# Altium integrated library SpecialFunctions.IntLib: 70 symbols
Pins are listed as number, name and electrical type; pins without a type are passive.

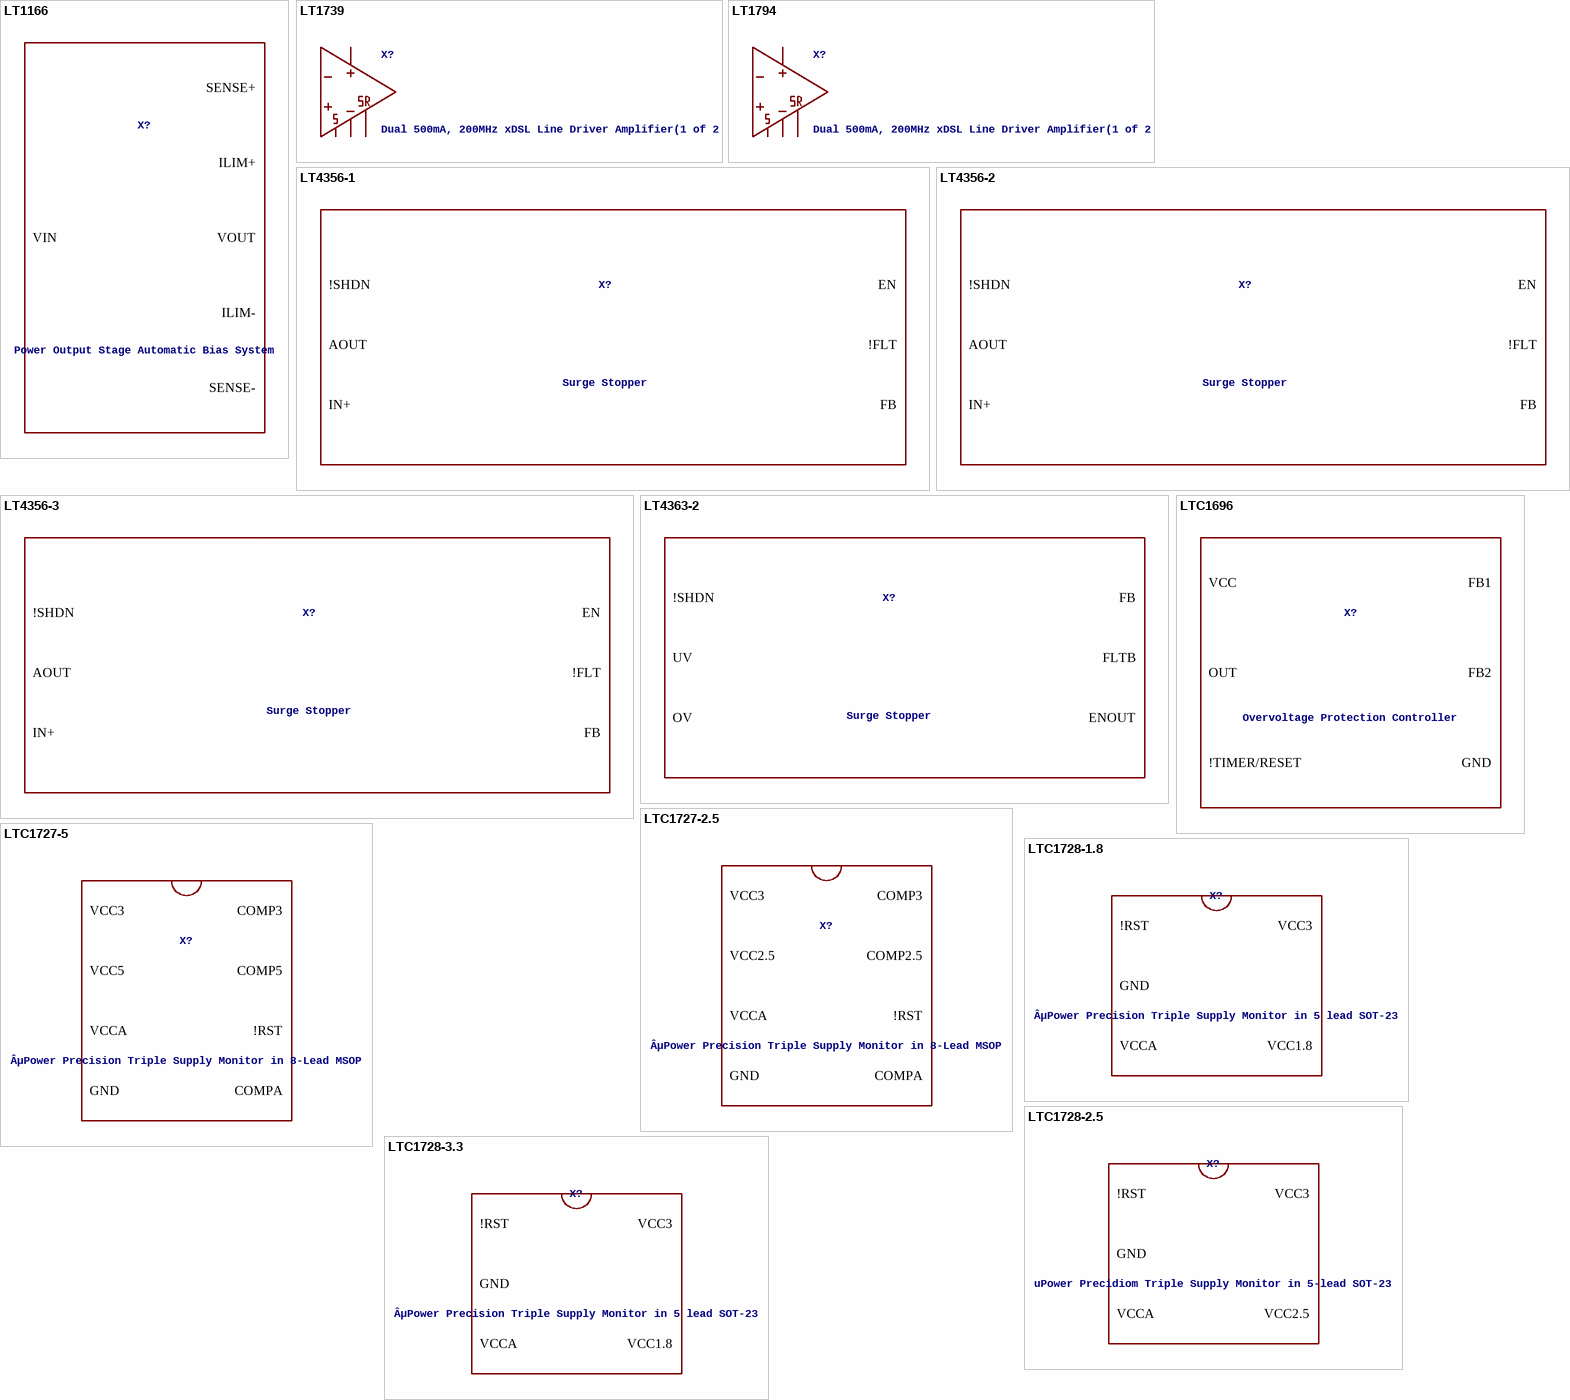
[diagram p0: symbols LT1166 to LTC1728-3.3]

## LT1166
designator X?, comment Power Output Stage Automatic Bias System
VALUE2: LT1166; SPICEMODEL: LTC.lib
pins: ?1 VTOP, ?2 VIN, ?3 VOUT, ?4 VBOTTOM, ?5 SENSE-, ?6 ILIM-, ?7 ILIM+, ?8 SENSE+

## LT1739
designator X?, comment Dual 500mA, 200MHz xDSL Line Driver Amplifier(1 of 2)
VALUE2: LT1794; SPICEMODEL: LTC1.lib
pins: ?1 IN+, ?2 IN-, ?3 V+, ?4 V-, ?5 OUT, ?6 S, ?7 SR

## LT1794
designator X?, comment Dual 500mA, 200MHz xDSL Line Driver Amplifier(1 of 2)
VALUE2: LT1794; SPICEMODEL: LTC1.lib
pins: ?1 IN+, ?2 IN-, ?3 V+, ?4 V-, ?5 OUT, ?6 S, ?7 SR

## LT4356-1
designator X?, comment Surge Stopper
VALUE2: LT4356-1; SPICEMODEL: LT4356-1.sub
pins: ?1 TMR, ?2 FB, ?3 OUT, ?4 GATE, ?5 SNS, ?6 VCC, ?7 !SHDN, ?8 !FLT, ?9 EN, ?10 GND, ?11 AOUT, ?12 IN+

## LT4356-2
designator X?, comment Surge Stopper
VALUE2: LT4356-2; SPICEMODEL: LT4356-2.sub
pins: ?1 TMR, ?2 FB, ?3 OUT, ?4 GATE, ?5 SNS, ?6 VCC, ?7 !SHDN, ?8 !FLT, ?9 EN, ?10 GND, ?11 AOUT, ?12 IN+

## LT4356-3
designator X?, comment Surge Stopper
VALUE2: LT4356-3; SPICEMODEL: LT4356-3.sub
pins: ?1 TMR, ?2 FB, ?3 OUT, ?4 GATE, ?5 SNS, ?6 VCC, ?7 !SHDN, ?8 !FLT, ?9 EN, ?10 GND, ?11 AOUT, ?12 IN+

## LT4363-2
designator X?, comment Surge Stopper
VALUE2: LT4363-2; SPICEMODEL: LT4363-2.sub
pins: ?1 FB, ?2 OUT, ?3 SNS, ?4 GATE, ?5 VCC, ?6 !SHDN, ?7 OV, ?8 UV, ?9 GND, ?10 FLTB, ?11 ENOUT, ?12 TMR

## LTC1696
designator X?, comment Overvoltage Protection Controller
VALUE2: LTC1696; SPICEMODEL: LTC1696.sub
pins: ?1 FB1, ?2 GND, ?3 VCC, ?4 OUT, ?5 FB2, ?6 !TIMER/RESET

## LTC1727-2.5
designator X?, comment ÂµPower Precision Triple Supply Monitor in 8-Lead MSOP
VALUE2: LTC1727-2.5; SPICEMODEL: LTC1727-2.5.sub
pins: ?1 VCC3, ?2 VCC2.5, ?3 VCCA, ?4 GND, ?5 COMPA, ?6 !RST, ?7 COMP2.5, ?8 COMP3

## LTC1727-5
designator X?, comment ÂµPower Precision Triple Supply Monitor in 8-Lead MSOP
VALUE2: LTC1727-5; SPICEMODEL: LTC1727-5.sub
pins: ?1 VCC3, ?2 VCC5, ?3 VCCA, ?4 GND, ?5 COMPA, ?6 !RST, ?7 COMP5, ?8 COMP3

## LTC1728-1.8
designator X?, comment ÂµPower Precision Triple Supply Monitor in 5 lead SOT-23
VALUE2: LTC1728-1.8; SPICEMODEL: LTC1728-1.8.sub
pins: ?1 !RST, ?2 GND, ?3 VCCA, ?4 VCC1.8, ?5 VCC3

## LTC1728-2.5
designator X?, comment uPower Precidiom Triple Supply Monitor in 5-lead SOT-23
VALUE2: LTC1728-2.5; SPICEMODEL: LTC1728-2.5.sub
pins: ?1 !RST, ?2 GND, ?3 VCCA, ?4 VCC2.5, ?5 VCC3

## LTC1728-3.3
designator X?, comment ÂµPower Precision Triple Supply Monitor in 5 lead SOT-23
VALUE2: LTC1728-3.3; SPICEMODEL: LTC1728-3.3.sub
pins: ?1 !RST, ?2 GND, ?3 VCCA, ?4 VCC1.8, ?5 VCC3

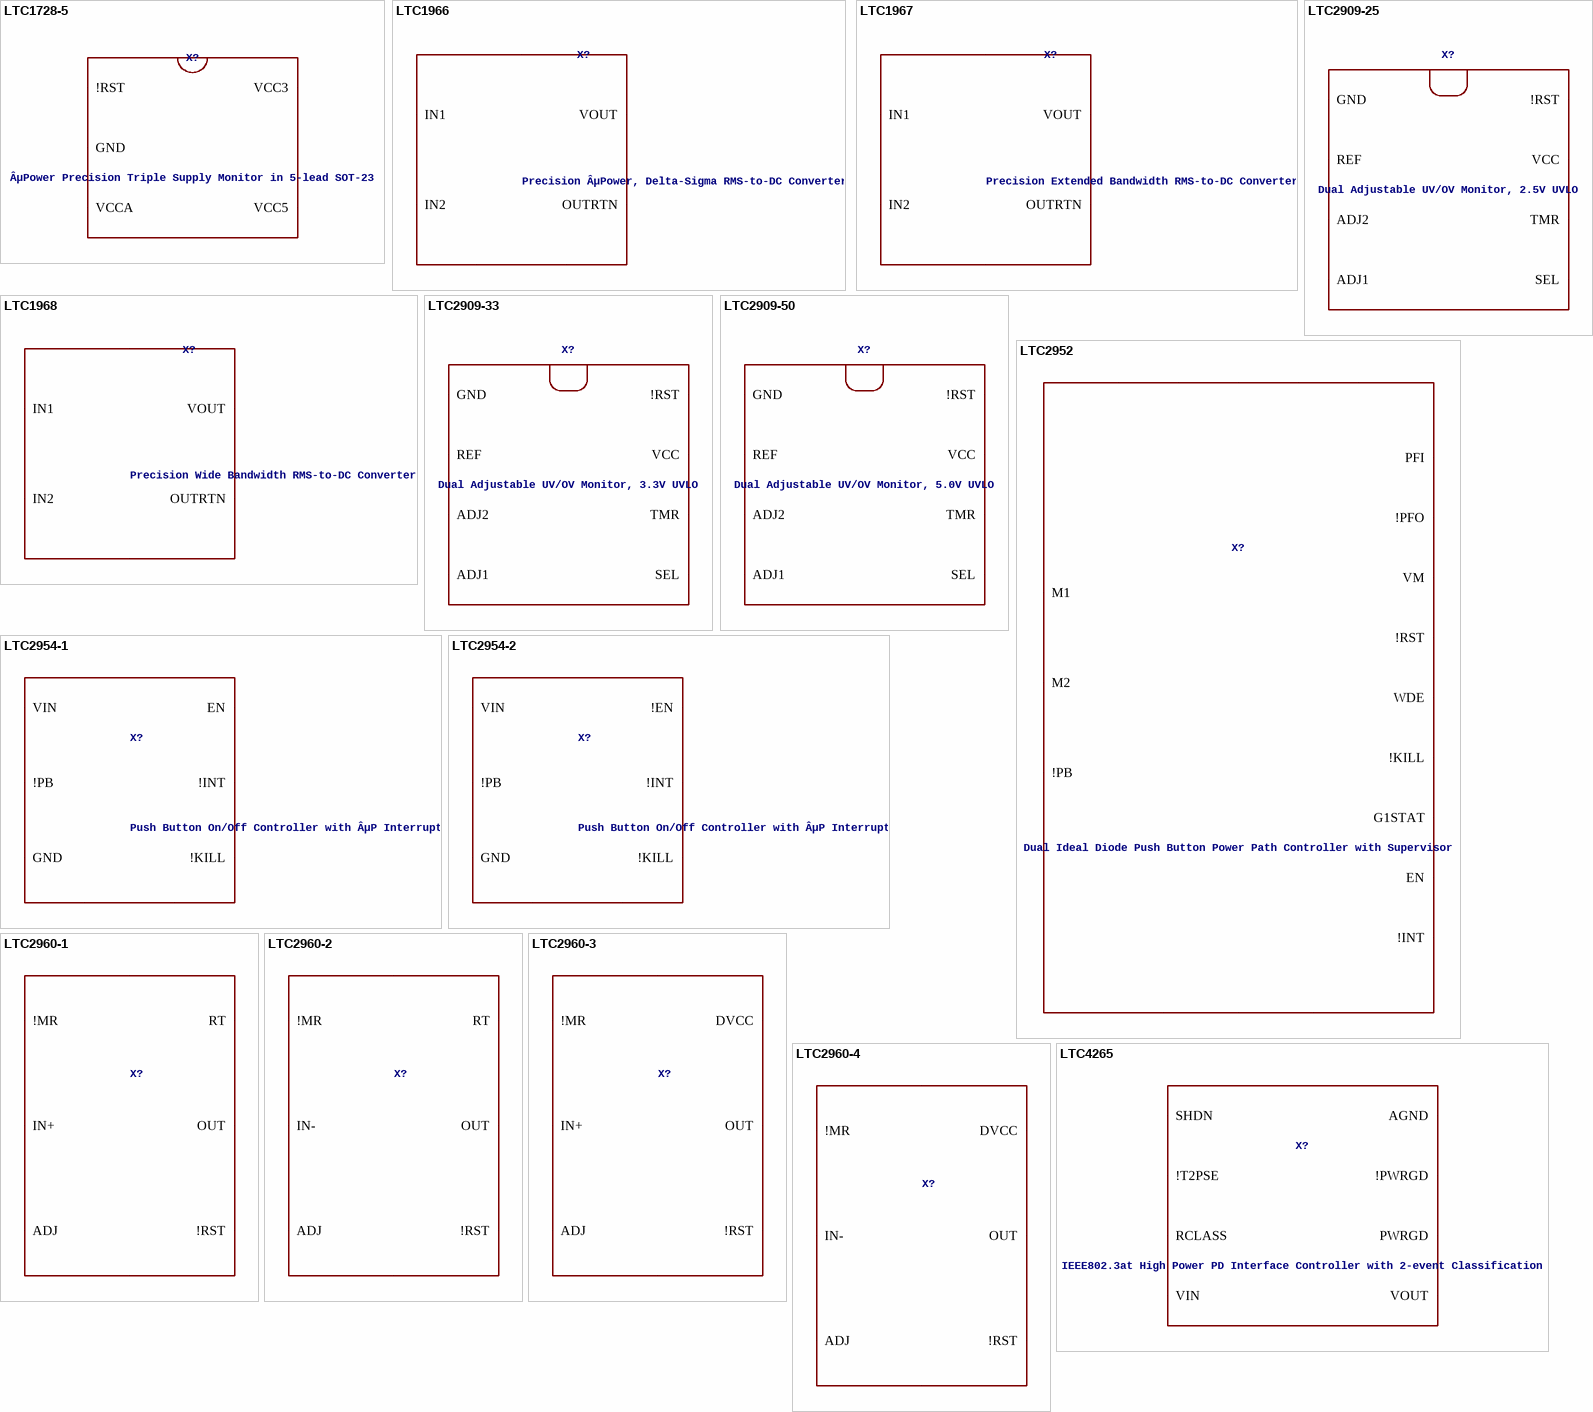
[diagram p1: symbols LTC1728-5 to LTC4265]

## LTC1728-5
designator X?, comment ÂµPower Precision Triple Supply Monitor in 5-lead SOT-23
VALUE2: LTC1728-5; SPICEMODEL: LTC1728-5.sub
pins: ?1 !RST, ?2 GND, ?3 VCCA, ?4 VCC5, ?5 VCC3

## LTC1966
designator X?, comment Precision ÂµPower, Delta-Sigma RMS-to-DC Converter
VALUE2: LTC1966; SPICEMODEL: LTC1966.lib
pins: ?1 GND, ?2 IN1, ?3 IN2, ?4 VSS, ?5 VOUT, ?6 OUTRTN, ?7 VDD

## LTC1967
designator X?, comment Precision Extended Bandwidth RMS-to-DC Converter
VALUE2: LTC1967; SPICEMODEL: LTC1967.lib
pins: ?1 GND, ?2 IN1, ?3 IN2, ?4 VOUT, ?5 OUTRTN, ?6 VDD

## LTC1968
designator X?, comment Precision Wide Bandwidth RMS-to-DC Converter
VALUE2: LTC1968; SPICEMODEL: LTC1968.lib
pins: ?1 GND, ?2 IN1, ?3 IN2, ?4 VOUT, ?5 OUTRTN, ?6 VDD

## LTC2909-25
designator X?, comment Dual Adjustable UV/OV Monitor, 2.5V UVLO
VALUE2: LTC2909-25; SPICEMODEL: LTC2909-25.sub
pins: ?1 GND, ?2 REF, ?3 ADJ2, ?4 ADJ1, ?5 SEL, ?6 TMR, ?7 VCC, ?8 !RST

## LTC2909-33
designator X?, comment Dual Adjustable UV/OV Monitor, 3.3V UVLO
VALUE2: LTC2909-33; SPICEMODEL: LTC2909-33.sub
pins: ?1 GND, ?2 REF, ?3 ADJ2, ?4 ADJ1, ?5 SEL, ?6 TMR, ?7 VCC, ?8 !RST

## LTC2909-50
designator X?, comment Dual Adjustable UV/OV Monitor, 5.0V UVLO
VALUE2: LTC2909-50; SPICEMODEL: LTC2909-50.sub
pins: ?1 GND, ?2 REF, ?3 ADJ2, ?4 ADJ1, ?5 SEL, ?6 TMR, ?7 VCC, ?8 !RST

## LTC2952
designator X?, comment Dual Ideal Diode Push Button Power Path Controller with Supervisor
MODELFILE: LTC2952.sub; SPICEMODEL: LTC2952
pins: ?1 VM, ?2 PFI, ?3 WDE, ?4 !PB, ?5 !RST, ?6 !PFO, ?7 ONT, ?8 OFFT, ?9 GND, ?10 !INT, ?11 EN, ?12 G2, ?13 V2, ?14 VS, ?15 V1, ?16 G1, ?17 G1STAT, ?18 M2, ?19 M1, ?20 !KILL

## LTC2954-1
designator X?, comment Push Button On/Off Controller with ÂµP Interrupt
VALUE2: LTC2954-1; SPICEMODEL: LTC2954-1.sub
pins: ?1 VIN, ?2 !PB, ?3 ONT, ?4 GND, ?5 !INT, ?6 EN, ?7 PDT, ?8 !KILL

## LTC2954-2
designator X?, comment Push Button On/Off Controller with ÂµP Interrupt
VALUE2: LTC2954-2; SPICEMODEL: LTC2954-2.sub
pins: ?1 VIN, ?2 !PB, ?3 ONT, ?4 GND, ?5 !INT, ?6 !EN, ?7 PDT, ?8 !KILL

## LTC2960-1
designator X?, comment 36V Nano-Current Two Input Voltage Monitor  (value not drawn)
VALUE2: LTC2960-1; SPICEMODEL: LTC2960-1.sub
pins: ?1 VIN, ?2 RT, ?3 !RST, ?4 OUT, ?5 GND, ?6 !MR, ?7 ADJ, ?8 IN+

## LTC2960-2
designator X?, comment 36V Nano-Current Two Input Voltage Monitor  (value not drawn)
VALUE2: LTC2960-2; SPICEMODEL: LTC2960-2.sub
pins: ?1 VIN, ?2 RT, ?3 !RST, ?4 OUT, ?5 GND, ?6 !MR, ?7 ADJ, ?8 IN-

## LTC2960-3
designator X?, comment 36V Nano-Current Two Input Voltage Monitor  (value not drawn)
VALUE2: LTC2960-3; SPICEMODEL: LTC2960-3.sub
pins: ?1 VIN, ?2 DVCC, ?3 !RST, ?4 OUT, ?5 GND, ?6 !MR, ?7 ADJ, ?8 IN+

## LTC2960-4
designator X?, comment 36V Nano-Current Two Input Voltage Monitor  (value not drawn)
VALUE2: LTC2960-4; SPICEMODEL: LTC2960-4.sub
pins: ?1 VIN, ?2 DVCC, ?3 !RST, ?4 OUT, ?5 GND, ?6 !MR, ?7 ADJ, ?8 IN-

## LTC4265
designator X?, comment IEEE802.3at High Power PD Interface Controller with 2-event Classification
VALUE2: LTC4265; SPICEMODEL: LTC4265.sub
pins: ?1 SHDN, ?2 !T2PSE, ?3 RCLASS, ?4 VIN, ?5 VOUT, ?6 PWRGD, ?7 !PWRGD, ?8 AGND

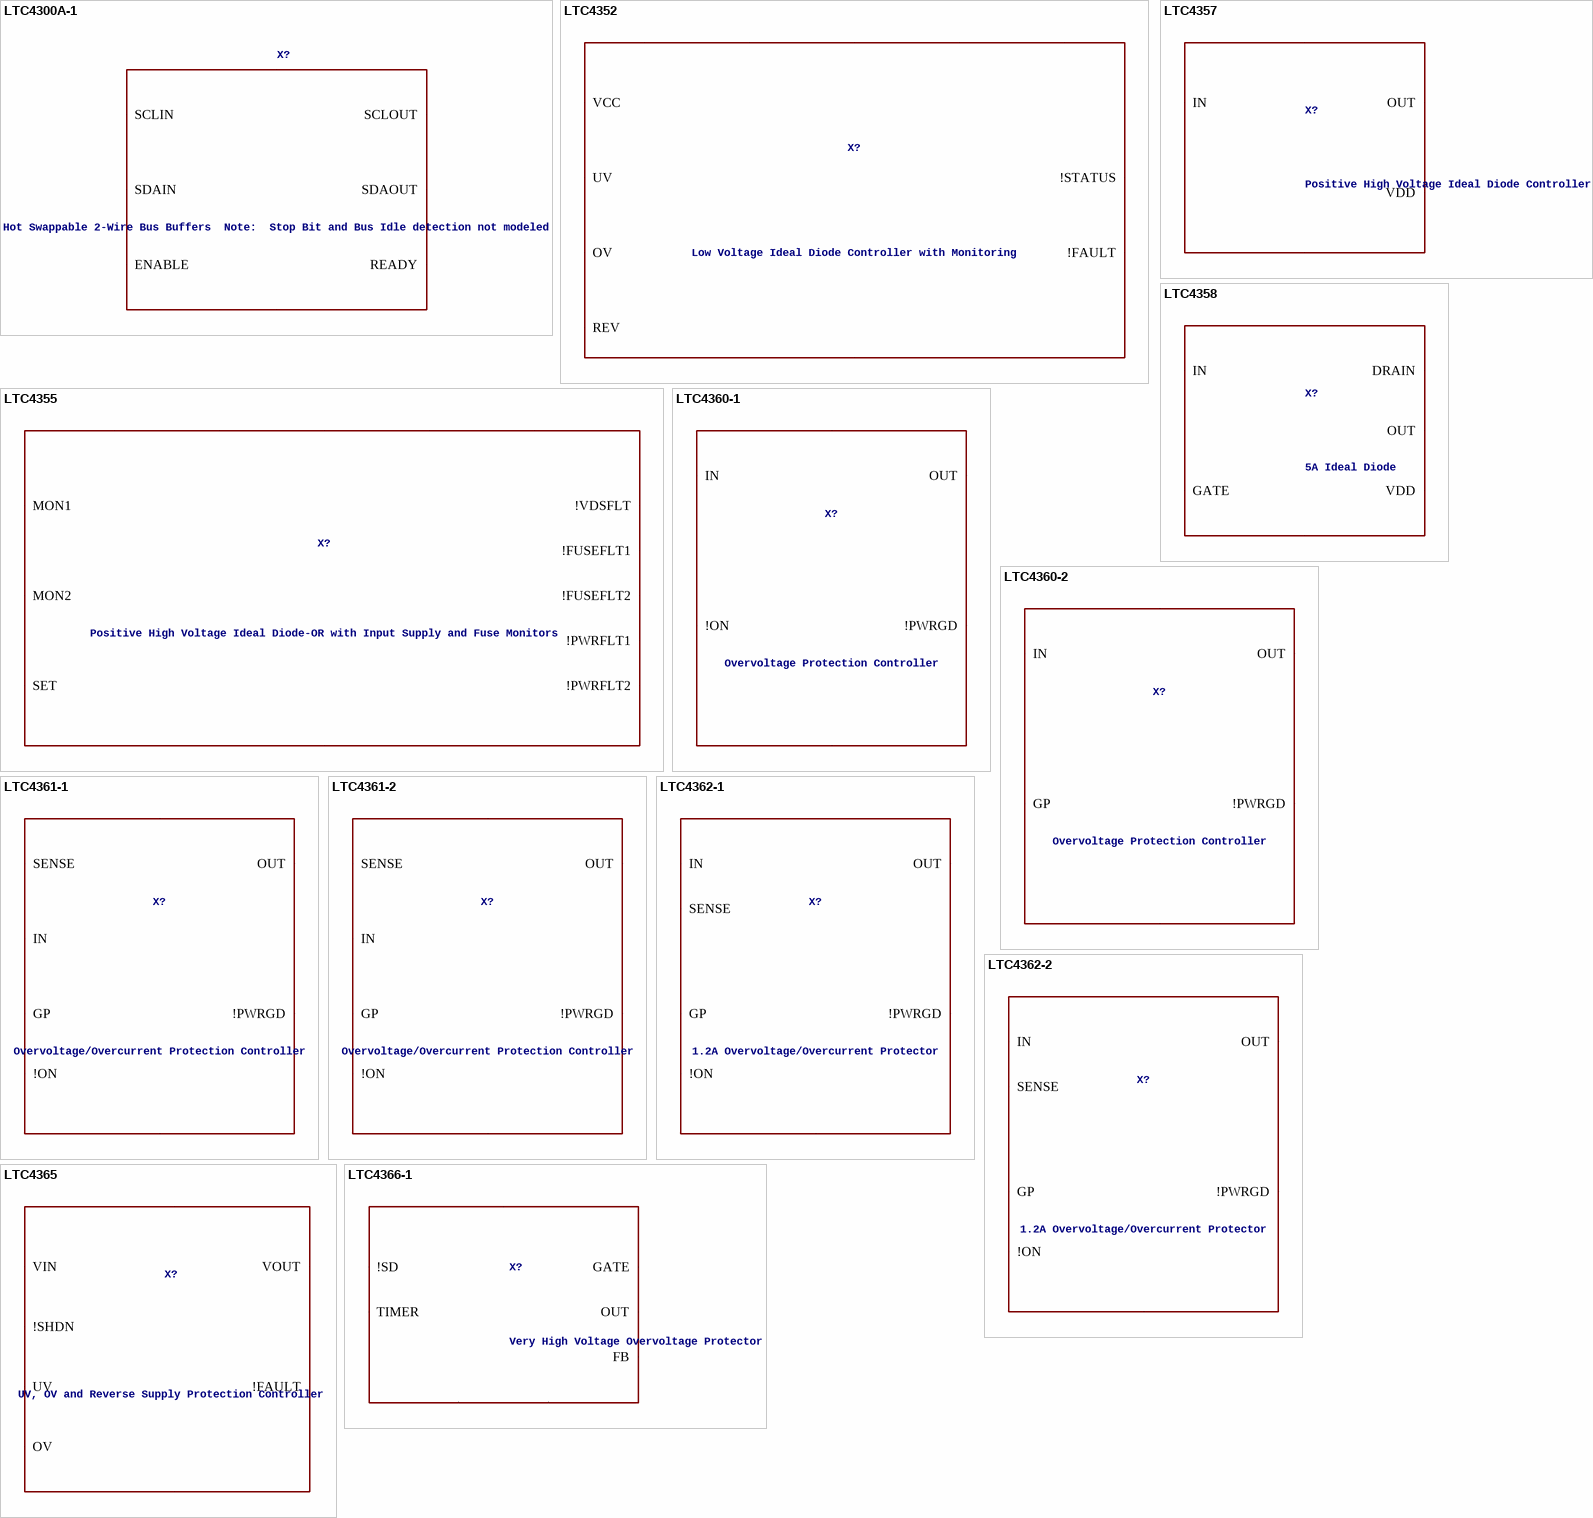
[diagram p2: symbols LTC4300A-1 to LTC4366-1]

## LTC4300A-1
designator X?, comment Hot Swappable 2-Wire Bus Buffers  Note:  Stop Bit and Bus Idle detection not modeled
VALUE2: LTC4300A-1; SPICEMODEL: LTC4300A-1.sub
pins: ?1 ENABLE, ?2 SCLOUT, ?3 SCLIN, ?4 GND, ?5 READY, ?6 SDAIN, ?7 SDAOUT, ?8 VCC

## LTC4352
designator X?, comment Low Voltage Ideal Diode Controller with Monitoring
VALUE2: LTC4352; SPICEMODEL: LTC4352.sub
pins: ?1 VIN, ?2 VCC, ?3 UV, ?4 OV, ?5 !STATUS, ?6 !FAULT, ?7 REV, ?8 OUT, ?9 GND, ?10 CPO, ?11 GATE, ?12 SOURCE

## LTC4355
designator X?, comment Positive High Voltage Ideal Diode-OR with Input Supply and Fuse Monitors
MODELFILE: LTC4355.sub; VALUE2: LTC4355; SPICEMODEL: LTC4355
pins: ?1 MON1, ?2 MON2, ?3 GND, ?4 SET, ?5 !FUSEFLT2, ?6 !FUSEFLT1, ?7 !VDSFLT, ?8 OUT, ?9 GATE2, ?10 IN2, ?11 GATE1, ?12 IN1, ?13 !PWRFLT1, ?14 !PWRFLT2

## LTC4357
designator X?, comment Positive High Voltage Ideal Diode Controller
VALUE2: LTC4357; SPICEMODEL: LTC4357.sub
pins: ?1 OUT, ?2 IN, ?3 GATE, ?4 GND, ?5 VDD

## LTC4358
designator X?, comment 5A Ideal Diode
VALUE2: LTC4358; SPICEMODEL: LTC4358.sub
pins: ?1 OUT, ?2 IN, ?3 DRAIN, ?4 GATE, ?5 VDD, ?6 GND

## LTC4360-1
designator X?, comment Overvoltage Protection Controller
VALUE2: LTC4360-1; SPICEMODEL: LTC4360-1.sub
pins: ?1 IN, ?2 GATE, ?3 !ON, ?4 OUT, ?5 !PWRGD, ?6 GND

## LTC4360-2
designator X?, comment Overvoltage Protection Controller
VALUE2: LTC4360-2; SPICEMODEL: LTC4360-2.sub
pins: ?1 IN, ?2 GATE, ?3 GP, ?4 OUT, ?5 !PWRGD, ?6 GND

## LTC4361-1
designator X?, comment Overvoltage/Overcurrent Protection Controller
VALUE2: LTC4361-1; SPICEMODEL: LTC4361-1.sub
pins: ?1 GP, ?2 IN, ?3 SENSE, ?4 GATE, ?5 !ON, ?6 OUT, ?7 !PWRGD, ?8 GND

## LTC4361-2
designator X?, comment Overvoltage/Overcurrent Protection Controller
VALUE2: LTC4361-2; SPICEMODEL: LTC4361-2.sub
pins: ?1 GP, ?2 IN, ?3 SENSE, ?4 GATE, ?5 !ON, ?6 OUT, ?7 !PWRGD, ?8 GND

## LTC4362-1
designator X?, comment 1.2A Overvoltage/Overcurrent Protector
VALUE2: LTC4362-1; SPICEMODEL: LTC4362-1.sub
pins: ?1 GP, ?2 IN, ?3 SENSE, ?4 OUT, ?5 !ON, ?6 !PWRGD, ?7 GND

## LTC4362-2
designator X?, comment 1.2A Overvoltage/Overcurrent Protector
VALUE2: LTC4362-2; SPICEMODEL: LTC4362-2.sub
pins: ?1 GP, ?2 IN, ?3 SENSE, ?4 OUT, ?5 !ON, ?6 !PWRGD, ?7 GND

## LTC4365
designator X?, comment UV, OV and Reverse Supply Protection Controller
VALUE2: LTC4365; SPICEMODEL: LTC4365.sub
pins: ?1 GND, ?2 OV, ?3 UV, ?4 VIN, ?5 GATE, ?6 VOUT, ?7 !FAULT, ?8 !SHDN

## LTC4366-1
designator X?, comment Very High Voltage Overvoltage Protector
VALUE2: LTC4366-1; SPICEMODEL: LTC4366-1.sub
pins: ?1 VDD, ?2 !SD, ?3 TIMER, ?4 VSS, ?5 BASE, ?6 FB, ?7 OUT, ?8 GATE

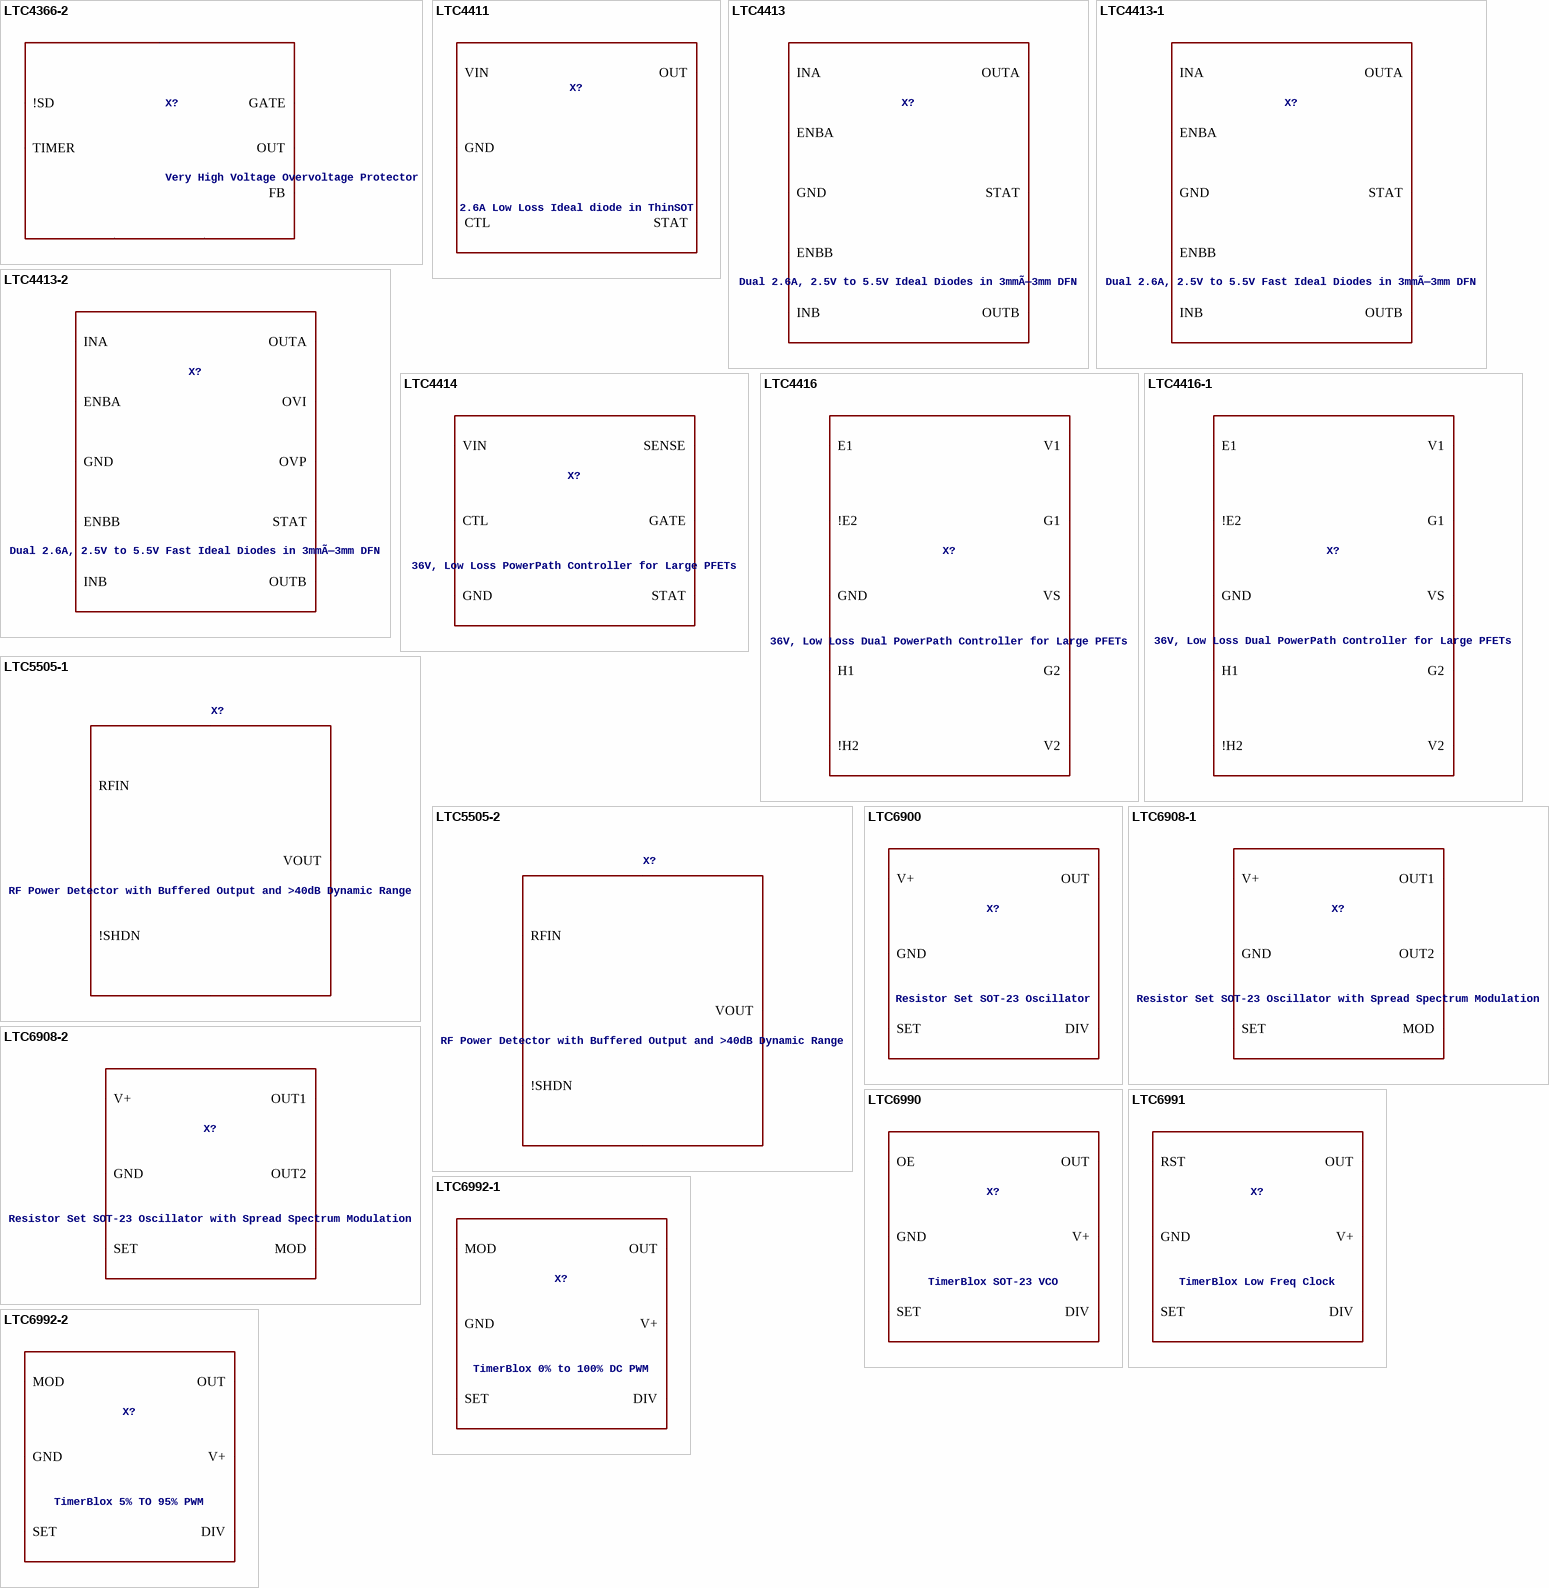
[diagram p3: symbols LTC4366-2 to LTC6992-2]

## LTC4366-2
designator X?, comment Very High Voltage Overvoltage Protector
VALUE2: LTC4366-2; SPICEMODEL: LTC4366-2.sub
pins: ?1 VDD, ?2 !SD, ?3 TIMER, ?4 VSS, ?5 BASE, ?6 FB, ?7 OUT, ?8 GATE

## LTC4411
designator X?, comment 2.6A Low Loss Ideal diode in ThinSOT
VALUE2: LTC4411; SPICEMODEL: LTC4411.sub
pins: ?1 VIN, ?2 GND, ?3 CTL, ?4 STAT, ?5 OUT

## LTC4413
designator X?, comment Dual 2.6A, 2.5V to 5.5V Ideal Diodes in 3mmÃ—3mm DFN
VALUE2: LTC4413; SPICEMODEL: LTC4413.sub
pins: ?1 INA, ?2 ENBA, ?3 GND, ?4 ENBB, ?5 INB, ?6 OUTB, ?7 STAT, ?8 OUTA

## LTC4413-1
designator X?, comment Dual 2.6A, 2.5V to 5.5V Fast Ideal Diodes in 3mmÃ—3mm DFN
VALUE2: LTC4413-1; SPICEMODEL: LTC4413-1.sub
pins: ?1 INA, ?2 ENBA, ?3 GND, ?4 ENBB, ?5 INB, ?6 OUTB, ?7 STAT, ?8 OUTA

## LTC4413-2
designator X?, comment Dual 2.6A, 2.5V to 5.5V Fast Ideal Diodes in 3mmÃ—3mm DFN
VALUE2: LTC4413-2; SPICEMODEL: LTC4413-2.sub
pins: ?1 INA, ?2 ENBA, ?3 GND, ?4 ENBB, ?5 INB, ?6 OUTB, ?7 OVP, ?8 OVI, ?9 STAT, ?10 OUTA

## LTC4414
designator X?, comment 36V, Low Loss PowerPath Controller for Large PFETs
VALUE2: LTC4414; SPICEMODEL: LTC4414.sub
pins: ?1 STAT, ?2 CTL, ?3 GND, ?4 SENSE, ?5 VIN, ?6 GATE

## LTC4416
designator X?, comment 36V, Low Loss Dual PowerPath Controller for Large PFETs
VALUE2: LTC4416; SPICEMODEL: LTC4416.sub
pins: ?1 H1, ?2 E1, ?3 GND, ?4 !E2, ?5 !H2, ?6 G2, ?7 V2, ?8 VS, ?9 V1, ?10 G1

## LTC4416-1
designator X?, comment 36V, Low Loss Dual PowerPath Controller for Large PFETs
VALUE2: LTC4416-1; SPICEMODEL: LTC4416-1.sub
pins: ?1 H1, ?2 E1, ?3 GND, ?4 !E2, ?5 !H2, ?6 G2, ?7 V2, ?8 VS, ?9 V1, ?10 G1

## LTC5505-1
designator X?, comment RF Power Detector with Buffered Output and >40dB Dynamic Range
VALUE2: LTC5505-1; SPICEMODEL: LTC5505-1.sub
pins: ?1 RFIN, ?2 GND, ?3 !SHDN, ?4 VOUT, ?5 VCC

## LTC5505-2
designator X?, comment RF Power Detector with Buffered Output and >40dB Dynamic Range
VALUE2: LTC5505-2; SPICEMODEL: LTC5505-2.sub
pins: ?1 RFIN, ?2 GND, ?3 !SHDN, ?4 VOUT, ?5 VCC

## LTC6900
designator X?, comment Resistor Set SOT-23 Oscillator
VALUE2: LTC6900; SPICEMODEL: LTC6900.sub
pins: ?1 V+, ?2 GND, ?3 SET, ?4 DIV, ?5 OUT

## LTC6908-1
designator X?, comment Resistor Set SOT-23 Oscillator with Spread Spectrum Modulation
VALUE2: LTC6908-1; SPICEMODEL: LTC6908-1.sub
pins: ?1 V+, ?2 GND, ?3 SET, ?4 MOD, ?5 OUT2, ?6 OUT1

## LTC6908-2
designator X?, comment Resistor Set SOT-23 Oscillator with Spread Spectrum Modulation
VALUE2: LTC6908-2; SPICEMODEL: LTC6908-2.sub
pins: ?1 V+, ?2 GND, ?3 SET, ?4 MOD, ?5 OUT2, ?6 OUT1

## LTC6990
designator X?, comment TimerBlox SOT-23 VCO
VALUE2: LTC6990; SPICEMODEL: LTC6990.sub
pins: ?1 OE, ?2 GND, ?3 SET, ?4 DIV, ?5 V+, ?6 OUT

## LTC6991
designator X?, comment TimerBlox Low Freq Clock
VALUE2: LTC6991; SPICEMODEL: LTC6991.sub
pins: ?1 RST, ?2 GND, ?3 SET, ?4 DIV, ?5 V+, ?6 OUT

## LTC6992-1
designator X?, comment TimerBlox 0% to 100% DC PWM
VALUE2: LTC6992-1; SPICEMODEL: LTC6992-1.sub
pins: ?1 MOD, ?2 GND, ?3 SET, ?4 DIV, ?5 V+, ?6 OUT

## LTC6992-2
designator X?, comment TimerBlox 5% TO 95% PWM
VALUE2: LTC6992-2; SPICEMODEL: LTC6992-2.sub
pins: ?1 MOD, ?2 GND, ?3 SET, ?4 DIV, ?5 V+, ?6 OUT

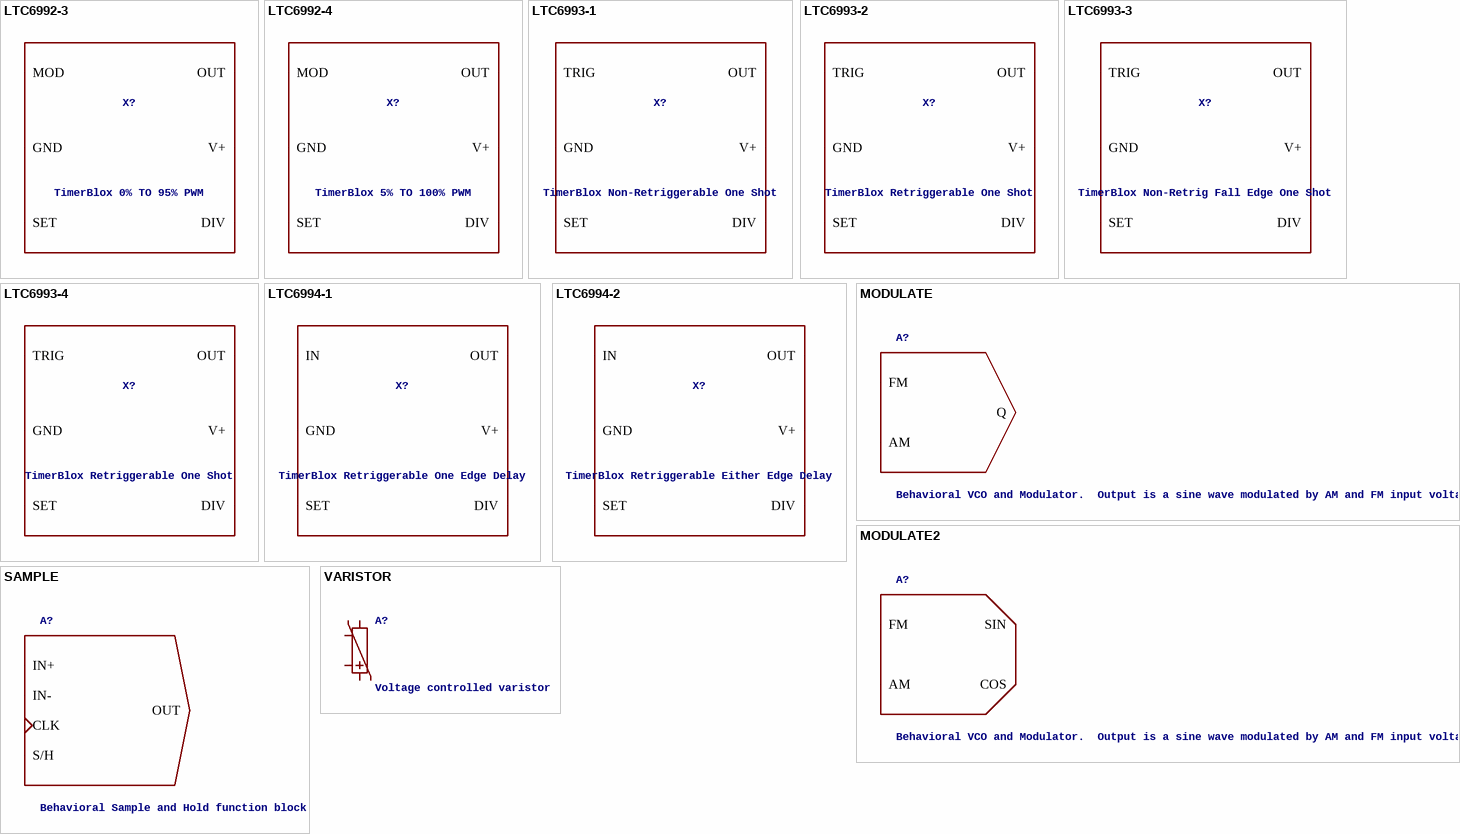
[diagram p4: symbols LTC6992-3 to VARISTOR]

## LTC6992-3
designator X?, comment TimerBlox 0% TO 95% PWM
VALUE2: LTC6992-3; SPICEMODEL: LTC6992-3.sub
pins: ?1 MOD, ?2 GND, ?3 SET, ?4 DIV, ?5 V+, ?6 OUT

## LTC6992-4
designator X?, comment TimerBlox 5% TO 100% PWM
VALUE2: LTC6992-4; SPICEMODEL: LTC6992-4.sub
pins: ?1 MOD, ?2 GND, ?3 SET, ?4 DIV, ?5 V+, ?6 OUT

## LTC6993-1
designator X?, comment TimerBlox Non-Retriggerable One Shot
VALUE2: LTC6993-1; SPICEMODEL: LTC6993-1.sub
pins: ?1 TRIG, ?2 GND, ?3 SET, ?4 DIV, ?5 V+, ?6 OUT

## LTC6993-2
designator X?, comment TimerBlox Retriggerable One Shot
VALUE2: LTC6993-2; SPICEMODEL: LTC6993-2.sub
pins: ?1 TRIG, ?2 GND, ?3 SET, ?4 DIV, ?5 V+, ?6 OUT

## LTC6993-3
designator X?, comment TimerBlox Non-Retrig Fall Edge One Shot
VALUE2: LTC6993-3; SPICEMODEL: LTC6993-3.sub
pins: ?1 TRIG, ?2 GND, ?3 SET, ?4 DIV, ?5 V+, ?6 OUT

## LTC6993-4
designator X?, comment TimerBlox Retriggerable One Shot
VALUE2: LTC6993-4; SPICEMODEL: LTC6993-4.sub
pins: ?1 TRIG, ?2 GND, ?3 SET, ?4 DIV, ?5 V+, ?6 OUT

## LTC6994-1
designator X?, comment TimerBlox Retriggerable One Edge Delay
VALUE2: LTC6994-1; SPICEMODEL: LTC6994-1.sub
pins: ?1 IN, ?2 GND, ?3 SET, ?4 DIV, ?5 V+, ?6 OUT

## LTC6994-2
designator X?, comment TimerBlox Retriggerable Either Edge Delay
VALUE2: LTC6994-2; SPICEMODEL: LTC6994-2.sub
pins: ?1 IN, ?2 GND, ?3 SET, ?4 DIV, ?5 V+, ?6 OUT

## MODULATE
designator A?, comment Behavioral VCO and Modulator.  Output is a sine wave modulated by AM and FM input voltages.
SPICEMODEL: MODULATOR
pins: ?1 FM, ?2 AM, ?3 Q, ?4 COM

## MODULATE2
designator A?, comment Behavioral VCO and Modulator.  Output is a sine wave modulated by AM and FM input voltages.  This version supplies an output in quadrature.
SPICEMODEL: MODULATOR
pins: ?1 FM, ?2 AM, ?3 COS, ?4 SIN, ?5 COM

## SAMPLE
designator A?, comment Behavioral Sample and Hold function block
SPICEMODEL: SAMPLEHOLD
footprint SO08
pins: 1 CLK, 2 COM, 3 IN+, 4 IN-, 5 OUT, 6 S/H

## VARISTOR
designator A?, comment Voltage controlled varistor
SPICEMODEL: VARISTOR
pins: ?1 INVIN, ?2 NONINVIN, ?3 OUT, ?4 COM